# EAGLE library part FXMA108BQX (library FXMA108BQX)
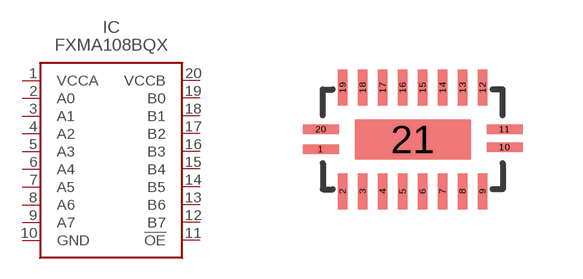
[diagram p0: symbol with the pads of QFN-20; footprint QFN-20]

Designator prefix IC

## FXMA108BQX  [QFN-20]
1  VCCA
2  A0
3  A1
4  A2
5  A3
6  A4
7  A5
8  A6
9  A7
10  GND
11  !OE
12  B7
13  B6
14  B5
15  B4
16  B3
17  B2
18  B1
19  B0
20  VCCB

## Footprint QFN-20 (pad centres in mm)
smd 0.9 x 0.24: 1 -2.3,-0.25; 10 2.3,-0.2; 11 2.3,0.25; 20 -2.3,0.25
smd 0.24 x 0.9: 2 -1.75,-1.3; 3 -1.25,-1.3; 4 -0.75,-1.3; 5 -0.25,-1.3; 6 0.25,-1.3; 7 0.75,-1.3; 8 1.25,-1.3; 9 1.75,-1.3; 12 1.75,1.3; 13 1.25,1.3; 14 0.75,1.3; 15 0.25,1.3; 16 -0.25,1.3; 17 -0.75,1.3; 18 -1.25,1.3; 19 -1.75,1.3
smd 2.9 x 1: 21 0,0